# EAGLE library part MCP73833 (library microbuilder)
Lithium-Polymer/Lithium-Ion Battery Charger [Part No.] Microchip MCP73833 Digikey: MCP73833T-AMI/UN Mouser: 579-MCP73833-AMI/UN
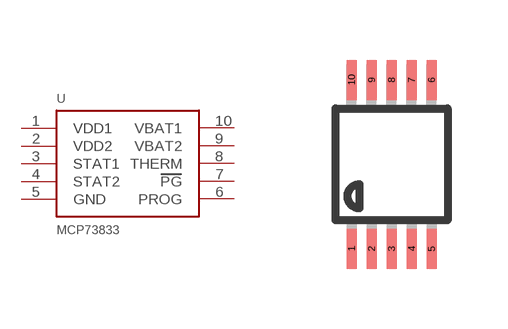
[diagram p19: symbol with the pads of MSOP10; footprint MSOP10]

Designator prefix U

## MCP73833  [MSOP10]
1  VDD1
2  VDD2
3  STAT1
4  STAT2
5  GND
6  PROG
7  PG
8  THERM
9  VBAT2
10  VBAT1

## Footprint MSOP10 (pad centres in mm)
10-Lead Mini Small Outline Package [MSOP]
smd 0.25 x 1: 1 -1,-2.113; 2 -0.5,-2.113; 3 0,-2.113; 4 0.5,-2.113; 5 1,-2.113; 6 1,2.113; 7 0.5,2.113; 8 0,2.113; 9 -0.5,2.113; 10 -1,2.113